# EAGLE library part ALD1106 (library meng)
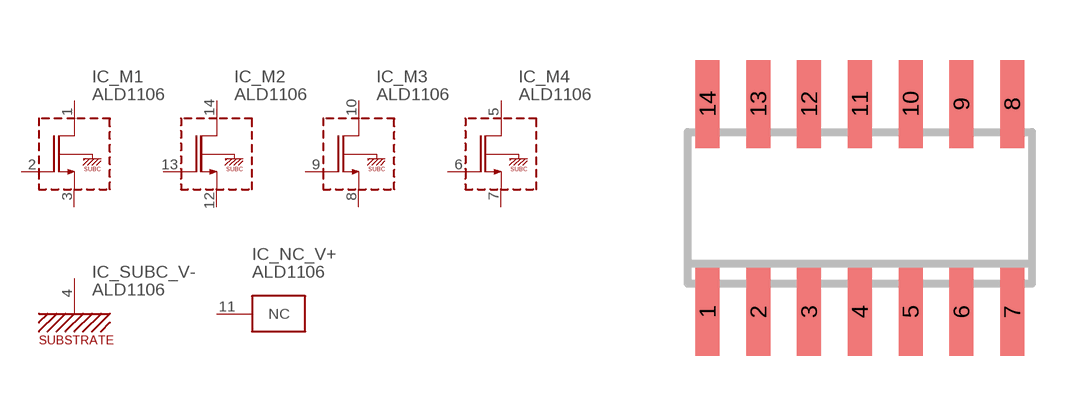
[diagram p18: symbol with the pads of SO14; footprint SO14]

Designator prefix IC; gates _M1=SMALL_SIGNAL_NMOS _M2=SMALL_SIGNAL_NMOS _M3=SMALL_SIGNAL_NMOS _M4=SMALL_SIGNAL_NMOS _SUBC_V-=SUBC _NC_V+=NC

## ALD1106 (VALUE: ALD1106)  [SO14]
1  _M1:D
2  _M1:G
3  _M1:S
4  _SUBC_V-:SUBC
5  _M4:D
6  _M4:G
7  _M4:S
8  _M3:S
9  _M3:G
10  _M3:D
11  _NC_V+:NC
12  _M2:S
13  _M2:G
14  _M2:D

## Footprint SO14 (pad centres in mm)
SMALL OUTLINE INTEGRATED CIRCUIT body 3.9 mm/JEDEC MS-012AC
smd 0.6 x 2.2: 1 -3.81,-2.6; 2 -2.54,-2.6; 3 -1.27,-2.6; 4 0,-2.6; 5 1.27,-2.6; 6 2.54,-2.6; 7 3.81,-2.6; 8 3.81,2.6; 9 2.54,2.6; 10 1.27,2.6; 11 0,2.6; 12 -1.27,2.6; 13 -2.54,2.6; 14 -3.81,2.6